# EAGLE library part LTC6802-1 (library icontroller)
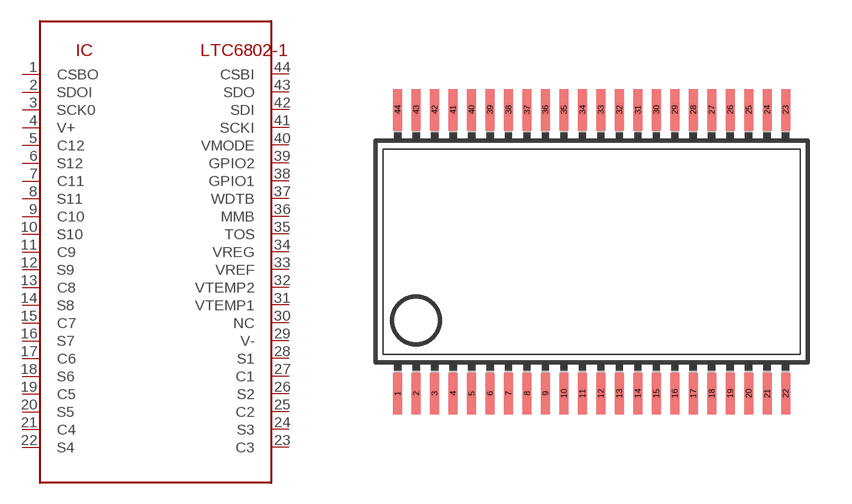
[diagram p4: symbol with the pads of SSOP44DL; footprint SSOP44DL]

Designator prefix IC

## LTC6802-1  [SSOP44DL]
1  CSBO
2  SDOI
3  SCK0
4  V+  pwr
5  C12
6  S12
7  C11
8  S11
9  C10
10  S10
11  C9
12  S9
13  C8
14  S8
15  C7
16  S7
17  C6
18  S6
19  C5
20  S5
21  C4
22  S4
23  C3
24  S3
25  C2
26  S2
27  C1
28  S1
29  V-  pwr
30  NC
31  VTEMP1
32  VTEMP2
33  VREF
34  VREG
35  TOS
36  MMB
37  WDTB
38  GPIO1
39  GPIO2
40  VMODE
41  SCKI
42  SDI
43  SDO
44  CSBI

## Footprint SSOP44DL (pad centres in mm)
Shrink Small Outline Package
smd 0.305 x 1.422: 1 -6.985,-4.877; 2 -6.35,-4.877; 3 -5.715,-4.877; 4 -5.08,-4.877; 5 -4.445,-4.877; 6 -3.81,-4.877; 7 -3.175,-4.877; 8 -2.54,-4.877; 9 -1.905,-4.877; 10 -1.27,-4.877; 11 -0.635,-4.877; 12 0,-4.877; 13 0.635,-4.877; 14 1.27,-4.877; 15 1.905,-4.877; 16 2.54,-4.877; 17 3.175,-4.877; 18 3.81,-4.877; 19 4.445,-4.877; 20 5.08,-4.877; 21 5.715,-4.877; 22 6.35,-4.877; 23 6.35,4.877; 24 5.715,4.877; 25 5.08,4.877; 26 4.445,4.877; 27 3.81,4.877; 28 3.175,4.877; 29 2.54,4.877; 30 1.905,4.877; 31 1.27,4.877; 32 0.635,4.877; 33 0,4.877; 34 -0.635,4.877; 35 -1.27,4.877; 36 -1.905,4.877; 37 -2.54,4.877; 38 -3.175,4.877; 39 -3.81,4.877; 40 -4.445,4.877; 41 -5.08,4.877; 42 -5.715,4.877; 43 -6.35,4.877; 44 -6.985,4.877